# Altium schematic symbol library linecarc20_balancing.SCHLIB: 11 symbols
Pins are listed as number, name and electrical type; pins without a type are passive.

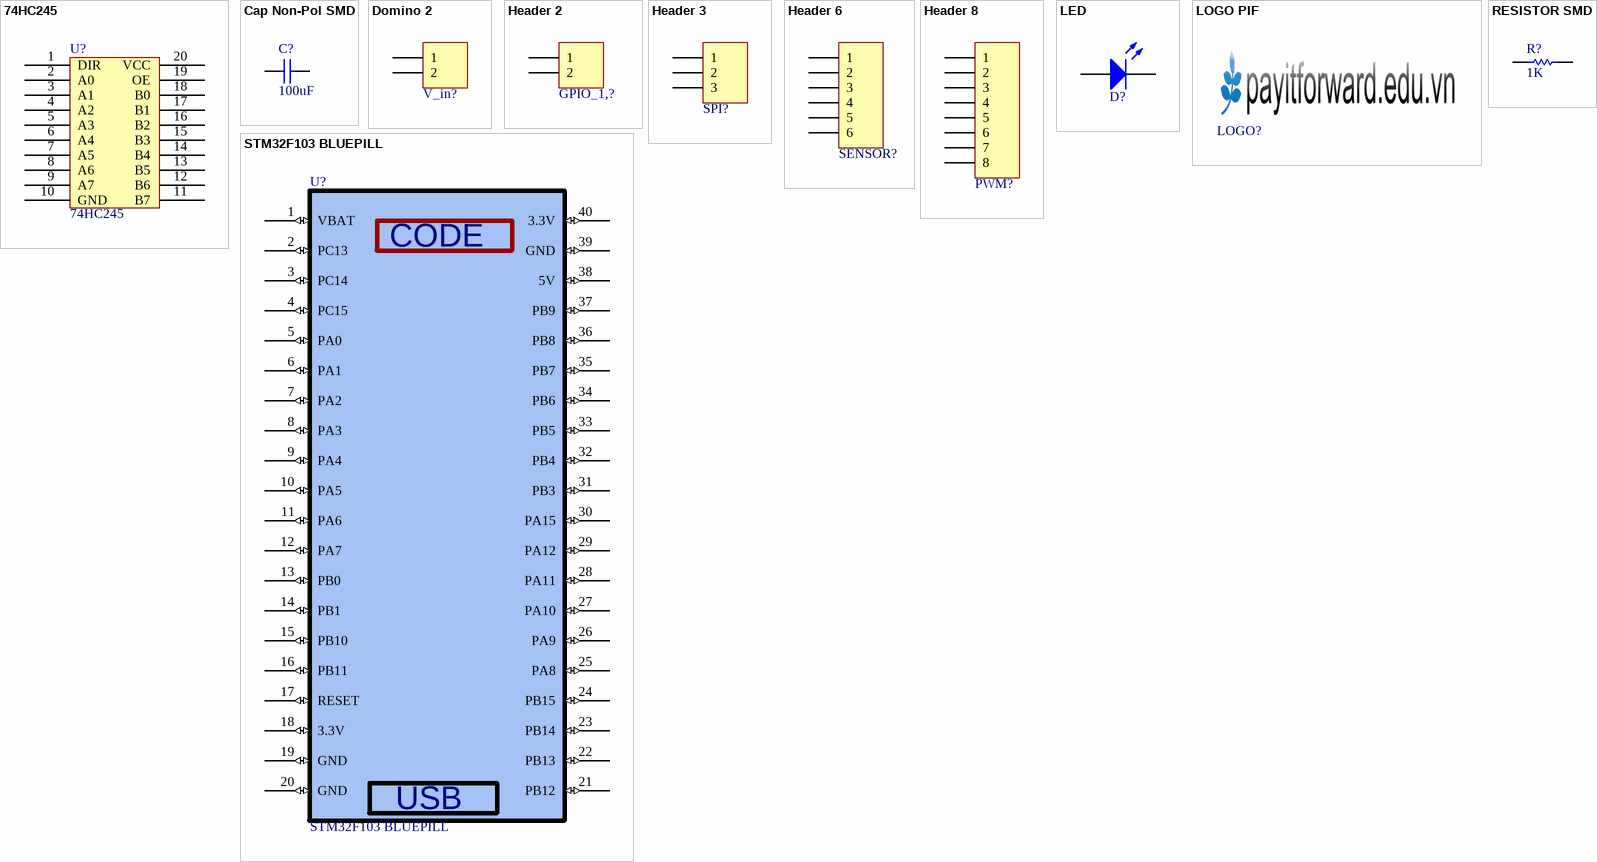
[diagram p0: symbols 74HC245 to STM32F103 BLUEPILL]

## 74HC245
designator U?
Octal bus tranceiver
footprint DIP20/W0.3 (DIP 20, 20 PIN, W 300mil, Pin to pin 100mil)
pins: 1 DIR, 2 A0, 3 A1, 4 A2, 5 A3, 6 A4, 7 A5, 8 A6, 9 A7, 10 GND (power), 11 B7, 12 B6, 13 B5, 14 B4, 15 B3, 16 B2, 17 B1, 18 B0, 19 OE, 20 VCC (power)

## Cap Non-Pol SMD
designator C?  value 100uF  (hidden comment: Cap Non-Pol SMD)
Capacitor
footprint CAP-SM-0805
footprint CAP-SM-1206
footprint CAP-SM-1210
footprint CAP-SM-0603 (SMD Ceramic Capacitor Size 0603)
pins: 1, 2

## Domino 2
designator V_in?  (value not drawn)
Domino, 2-Pin; LatestRevisionDate: 17-Jul-2002; LatestRevisionNote: Re-released for DXP Platform.; Publisher: Altium Limited
footprint DOMINO 2- 5mm
footprint DOMINO SMALL 2 (3.5 mm)
pins: 1, 2

## Header 2
designator GPIO_1,?  (value not drawn)
Header, 2-Pin; LatestRevisionDate: 17-Jul-2002; LatestRevisionNote: Re-released for DXP Platform.; Publisher: Altium Limited
footprint JP2
pins: 1, 2

## Header 3
designator SPI?  (value not drawn)
Header, 3-Pin; LatestRevisionDate: 17-Jul-2002; LatestRevisionNote: Re-released for DXP Platform.; Publisher: Altium Limited
footprint JP3 (Jumper 3)
pins: 1, 2, 3

## Header 6
designator SENSOR?  (value not drawn)
Header, 6-Pin; LatestRevisionDate: 17-Jul-2002; LatestRevisionNote: Re-released for DXP Platform.; Publisher: Altium Limited
footprint JP6
pins: 1, 2, 3, 4, 5, 6

## Header 8
designator PWM?  (value not drawn)
Header, 8-Pin; LatestRevisionDate: 17-Jul-2002; LatestRevisionNote: Re-released for DXP Platform.; Publisher: Altium Limited
footprint JP8
pins: 1, 2, 3, 4, 5, 6, 7, 8

## LED
designator D?  (value not drawn)
footprint LED-3mm (LED 2 PIN, 3ly Only colour)
footprint LED-5mm (LED 2 PIN, 5 ly , Only colour, pin to pin 110mil)
pins: 1 A, 2 K

## LOGO PIF
designator LOGO?  (value not drawn)
footprint PIF LOGO SMALL TOP
footprint PIF LOGO BIG SSTOP
footprint PIF LOGO BIG TOP
footprint PIF LOGO SMALL TOP
footprint PIF LOGO SMALL SSTOP

## RESISTOR SMD
designator R?  value 1K  (hidden comment: RESISTOR SMD)
Resistor
footprint RES-SM-0603
footprint RES-SM-0805
footprint RES-SM-1206
pins: 1, 2

## STM32F103 BLUEPILL
designator U?
footprint STM32F103 Bluepill
pins: 1 VBAT (io), 2 PC13 (io), 3 PC14 (io), 4 PC15 (io), 5 PA0 (io), 6 PA1 (io), 7 PA2 (io), 8 PA3 (io), 9 PA4 (io), 10 PA5 (io), 11 PA6 (io), 12 PA7 (io), 13 PB0 (io), 14 PB1 (io), 15 PB10 (io), 16 PB11 (io), 17 RESET (io), 18 3.3V (io), 19 GND (io), 20 GND (io), 21 PB12 (io), 22 PB13 (io), 23 PB14 (io), 24 PB15 (io), 25 PA8 (io), 26 PA9 (io), 27 PA10 (io), 28 PA11 (io), 29 PA12 (io), 30 PA15 (io), 31 PB3 (io), 32 PB4 (io), 33 PB5 (io), 34 PB6 (io), 35 PB7 (io), 36 PB8 (io), 37 PB9 (io), 38 5V (io), 39 GND (io), 40 3.3V (io)
text: CODE; USB